# Altium integrated library analog-devices.IntLib: 264 symbols (part 4 of 4)
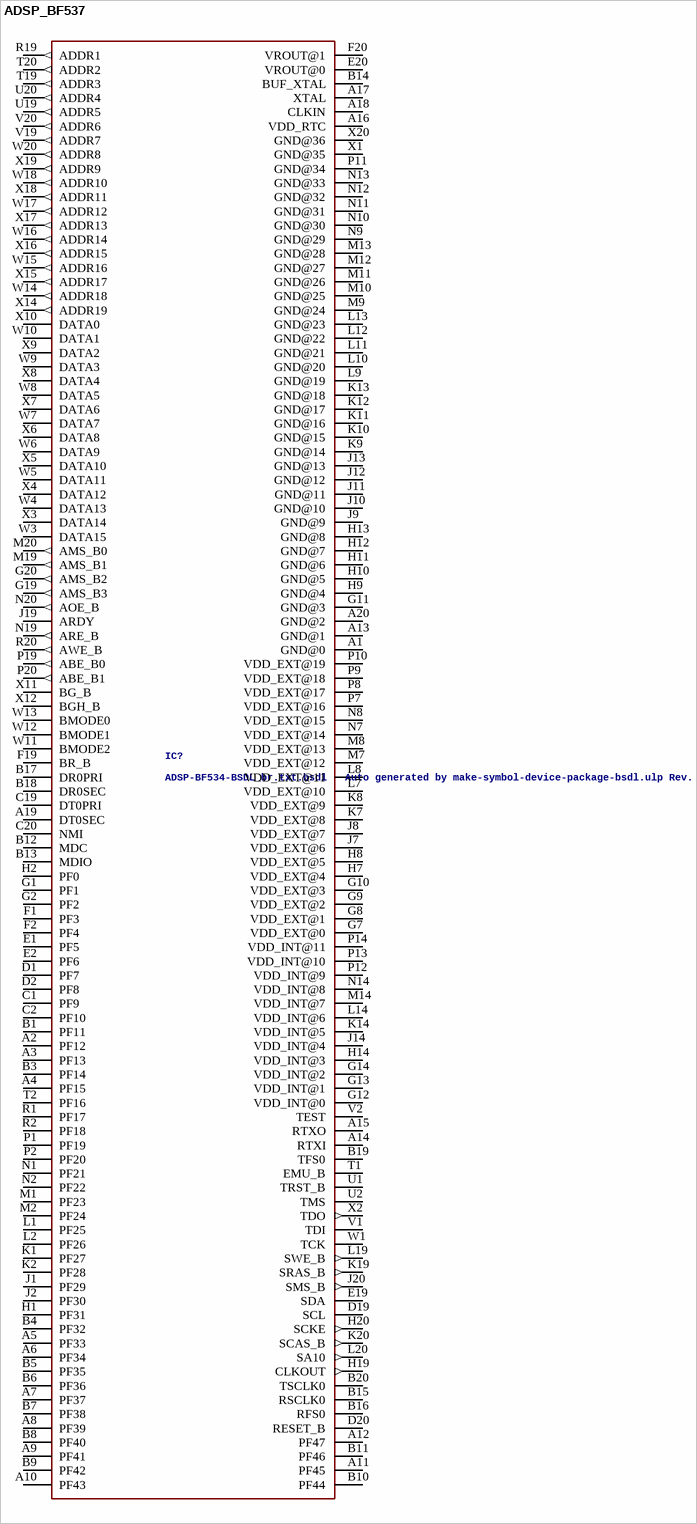
[diagram p42: symbol ADSP_BF537]

## ADSP_BF537
designator IC?, comment ADSP-BF534-BSDL_br.txt.bsdl   Auto generated by make-symbol-device-package-bsdl.ulp Rev. 8 Source: http://www.analog.com/UploadedFiles/Data_Sheets/90140778ADSP_BF536_7_prd.pdf Source2: BSDL_br.txt as Email: <adi-germany@analog.com>
MPN: ADSP-BF537BBCZ-5B; OC_FARNELL: 1776215; OC_NEWARK: 31M8122
footprint BGA_208
pins: A1 GND@0 (power), A2 PF12, A3 PF13, A4 PF15, A5 PF33, A6 PF34, A7 PF37, A8 PF39, A9 PF41, A10 PF43, A11 PF45, A12 PF47, A13 GND@1 (power), A14 RTXI (power), A15 RTXO (power), A16 VDD_RTC (power), A17 XTAL (power), A18 CLKIN (power), A19 DT0SEC, A20 GND@2 (power), B1 PF11, B3 PF14, B4 PF32, B5 PF35, B6 PF36, B7 PF38, B8 PF40, B9 PF42, B10 PF44, B11 PF46, B12 MDC, B13 MDIO, B14 BUF_XTAL (power), B15 RSCLK0, B16 RFS0, B17 DR0PRI, B18 DR0SEC, B19 TFS0, B20 TSCLK0, C1 PF9, C2 PF10, C19 DT0PRI, C20 NMI, D1 PF7, D2 PF8, D19 SCL, D20 RESET_B, E1 PF5, E2 PF6, E19 SDA, E20 VROUT@0 (power), F1 PF3, F2 PF4, F19 BR_B, F20 VROUT@1 (power), G1 PF1, G2 PF2, G7 VDD_EXT@0 (power), G8 VDD_EXT@1 (power), G9 VDD_EXT@2 (power), G10 VDD_EXT@3 (power), G11 GND@3 (power), G12 VDD_INT@0 (power), G13 VDD_INT@1 (power), G14 VDD_INT@2 (power), G19 AMS_B3 (out), G20 AMS_B2 (out), H1 PF31, H2 PF0, H7 VDD_EXT@4 (power), H8 VDD_EXT@5 (power), H9 GND@4 (power), H10 GND@5 (power), H11 GND@6 (power), H12 GND@7 (power), H13 GND@8 (power), H14 VDD_INT@3 (power), H19 CLKOUT (out), H20 SCKE (out), J1 PF29, J2 PF30, J7 VDD_EXT@6 (power), J8 VDD_EXT@7 (power), J9 GND@9 (power), J10 GND@10 (power), J11 GND@11 (power), J12 GND@12 (power), J13 GND@13 (power), J14 VDD_INT@4 (power), J19 ARDY, J20 SMS_B (out), K1 PF27, K2 PF28, K7 VDD_EXT@8 (power), K8 VDD_EXT@9 (power), K9 GND@14 (power), K10 GND@15 (power), K11 GND@16 (power), K12 GND@17 (power), K13 GND@18 (power), K14 VDD_INT@5 (power), K19 SRAS_B (out), K20 SCAS_B (out), L1 PF25, L2 PF26, L7 VDD_EXT@10 (power), L8 VDD_EXT@11 (power), L9 GND@19 (power), L10 GND@20 (power), L11 GND@21 (power), L12 GND@22 (power), L13 GND@23 (power), L14 VDD_INT@6 (power), L19 SWE_B (out), L20 SA10 (out), M1 PF23, M2 PF24, M7 VDD_EXT@12 (power), M8 VDD_EXT@13 (power), M9 GND@24 (power), M10 GND@25 (power), M11 GND@26 (power), M12 GND@27 (power), M13 GND@28 (power), M14 VDD_INT@7 (power), M19 AMS_B1 (out), M20 AMS_B0 (out), N1 PF21, N2 PF22, N7 VDD_EXT@14 (power), N8 VDD_EXT@15 (power), N9 GND@29 (power), N10 GND@30 (power), N11 GND@31 (power), N12 GND@32 (power), N13 GND@33 (power), N14 VDD_INT@8 (power), N19 ARE_B (out), N20 AOE_B (out), P1 PF19, P2 PF20, P7 VDD_EXT@16 (power), P8 VDD_EXT@17 (power), P9 VDD_EXT@18 (power), P10 VDD_EXT@19 (power), P11 GND@34 (power), P12 VDD_INT@9 (power), P13 VDD_INT@10 (power), P14 VDD_INT@11 (power), P19 ABE_B0 (out), P20 ABE_B1 (out), R1 PF17, R2 PF18, R19 ADDR1 (out), R20 AWE_B (out), T1 EMU_B (power), T2 PF16, T19 ADDR3 (out), T20 ADDR2 (out), U1 TRST_B, U2 TMS, U19 ADDR5 (out), U20 ADDR4 (out), V1 TDI, V2 TEST, V19 ADDR7 (out), V20 ADDR6 (out), W1 TCK, W3 DATA15, W4 DATA13, W5 DATA11, W6 DATA9, W7 DATA7, W8 DATA5, W9 DATA3, W10 DATA1, W11 BMODE2, W12 BMODE1, W13 BMODE0, W14 ADDR18 (out), W15 ADDR16 (out), W16 ADDR14 (out), W17 ADDR12 (out), W18 ADDR10 (out), W20 ADDR8 (out), X1 GND@35 (power), X2 TDO (out), X3 DATA14, X4 DATA12, X5 DATA10, X6 DATA8, X7 DATA6, X8 DATA4, X9 DATA2, X10 DATA0, X11 BG_B (hiz), X12 BGH_B (hiz), X14 ADDR19 (out), X15 ADDR17 (out), X16 ADDR15 (out), X17 ADDR13 (out), X18 ADDR11 (out), X19 ADDR9 (out), X20 GND@36 (power)

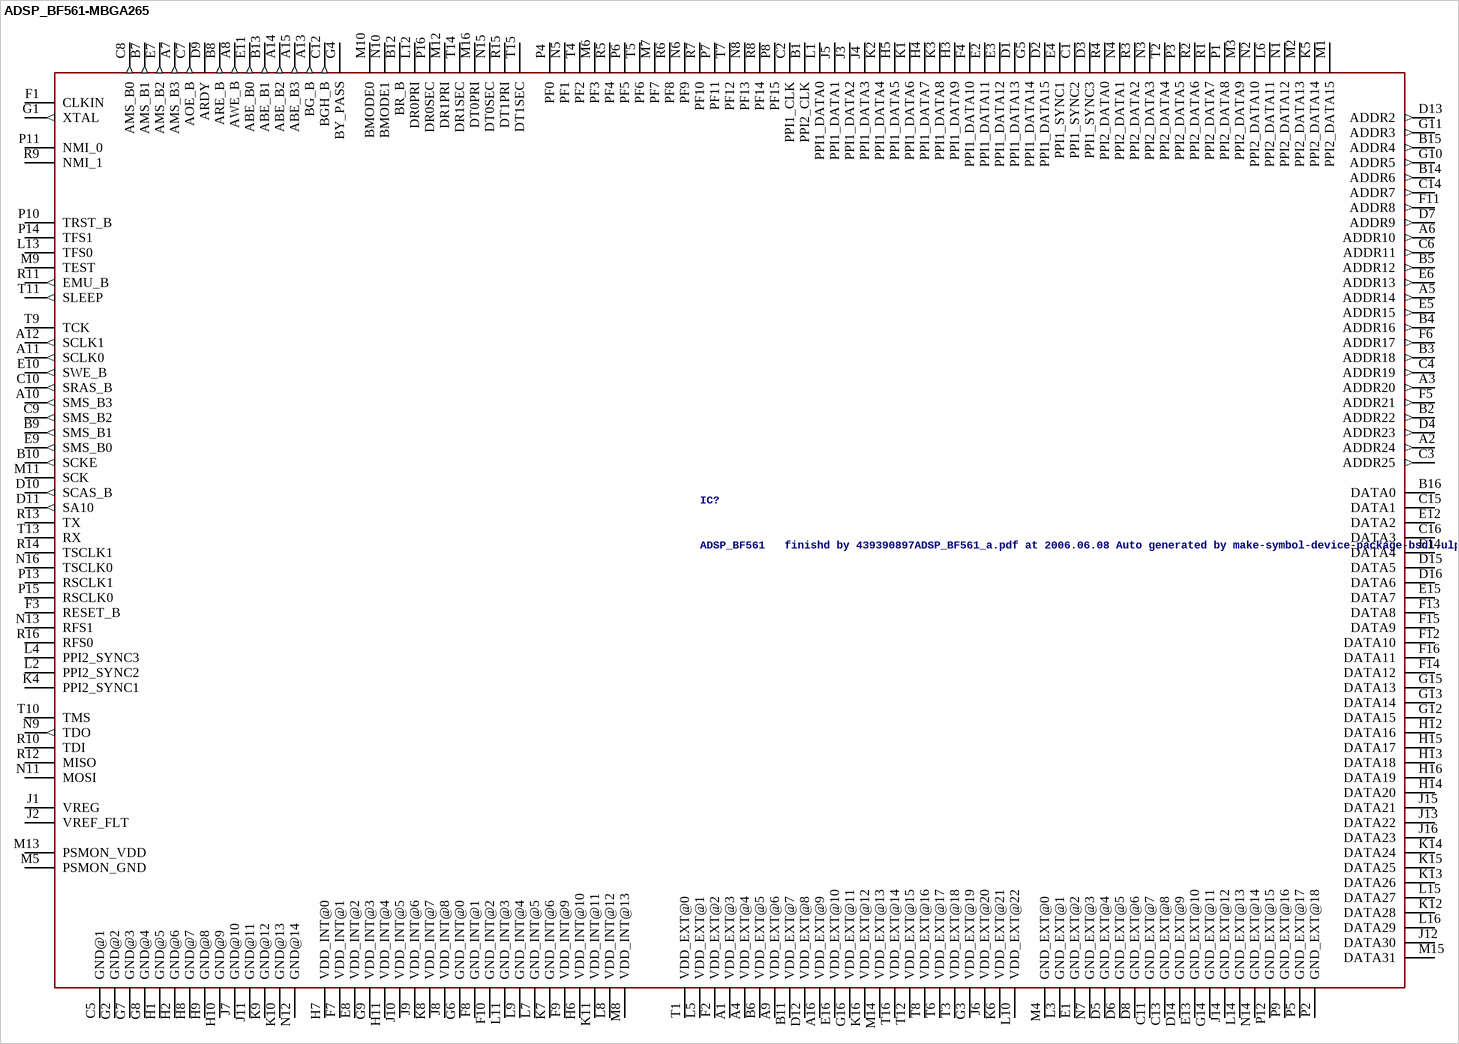
[diagram p33: symbol ADSP_BF561-MBGA265]

## ADSP_BF561-MBGA265
designator IC?, comment ADSP_BF561   finishd by 439390897ADSP_BF561_a.pdf at 2006.06.08 Auto generated by make-symbol-device-package-bsdl.ulp Rev. 13 Source: 37918753ADSP_BF561_256_MBGA_rev0_3.bsdl
OC_FARNELL: unknown; OC_NEWARK: unknown
footprint MPBGA256
pins: A1 VDD_EXT@3 (power), A2 ADDR24 (out), A3 ADDR20 (out), A4 VDD_EXT@4 (power), A5 ADDR14 (out), A6 ADDR10 (out), A7 AMS_B3 (out), A8 AWE_B (out), A9 VDD_EXT@6 (power), A10 SMS_B3 (out), A11 SCLK0 (out), A12 SCLK1 (out), A13 BG_B (out), A14 ABE_B2 (out), A15 ABE_B3 (out), A16 VDD_EXT@9 (power), B1 PPI2_CLK, B2 ADDR22 (out), B3 ADDR18 (out), B4 ADDR16 (out), B5 ADDR12 (out), B6 VDD_EXT@5 (power), B7 AMS_B1 (out), B8 ARE_B (out), B9 SMS_B1 (out), B10 SCKE (out), B11 VDD_EXT@7 (power), B12 BR_B, B13 ABE_B1 (out), B14 ADDR6 (out), B15 ADDR4 (out), B16 DATA0, C1 PPI1_SYNC2, C2 PPI1_CLK, C3 ADDR25 (out), C4 ADDR19 (out), C5 GND@1 (power), C6 ADDR11 (out), C7 AOE_B (out), C8 AMS_B0 (out), C9 SMS_B2 (out), C10 SRAS_B (out), C11 GND_EXT@7 (power), C12 BGH_B (out), C13 GND_EXT@8 (power), C14 ADDR7 (out), C15 DATA1, C16 DATA3, D1 PPI1_DATA13, D2 PPI1_DATA15, D3 PPI1_SYNC3, D4 ADDR23 (out), D5 GND_EXT@4 (power), D6 GND_EXT@5 (power), D7 ADDR9 (out), D8 GND_EXT@6 (power), D9 ARDY, D10 SCAS_B (out), D11 SA10 (out), D12 VDD_EXT@8 (power), D13 ADDR2 (out), D14 GND_EXT@9 (power), D15 DATA5, D16 DATA6, E1 GND_EXT@2 (power), E2 PPI1_DATA11, E3 PPI1_DATA12, E4 PPI1_SYNC1, E5 ADDR15 (out), E6 ADDR13 (out), E7 AMS_B2 (out), E8 VDD_INT@2 (power), E9 SMS_B0 (out), E10 SWE_B (out), E11 ABE_B0 (out), E12 DATA2, E13 GND_EXT@10 (power), E14 DATA4, E15 DATA7, E16 VDD_EXT@10 (power), F1 CLKIN, F2 VDD_EXT@2 (power), F3 RESET_B, F4 PPI1_DATA10, F5 ADDR21 (out), F6 ADDR17 (out), F7 VDD_INT@1 (power), F8 GND_INT@1 (power), F9 VDD_INT@9 (power), F10 GND_INT@2 (power), F11 ADDR8 (out), F12 DATA10, F13 DATA8, F14 DATA12, F15 DATA9, F16 DATA11, G1 XTAL (out), G2 GND@2 (power), G3 VDD_EXT@19 (power), G4 BY_PASS, G5 PPI1_DATA14, G6 GND_INT@0 (power), G7 GND@3 (power), G8 GND@4 (power), G9 VDD_INT@3 (power), G10 ADDR5 (out), G11 ADDR3 (out), G12 DATA15, G13 DATA14, G14 GND_EXT@11 (power), G15 DATA13, G16 VDD_EXT@11 (power), H1 GND@5 (power), H2 GND@6 (power), H3 PPI1_DATA9, H4 PPI1_DATA7, H5 PPI1_DATA5, H6 VDD_INT@10 (power), H7 VDD_INT@0 (power), H8 GND@7 (power), H9 GND@8 (power), H10 GND@9 (power), H11 VDD_INT@4 (power), H12 DATA16, H13 DATA18, H14 DATA20, H15 DATA17, H16 DATA19, J1 VREG, J2 VREF_FLT, J3 PPI1_DATA2, J4 PPI1_DATA3, J5 PPI1_DATA1, J6 VDD_EXT@20 (power), J7 GND@10 (power), J8 VDD_INT@8 (power), J9 VDD_INT@6 (power), J10 VDD_INT@5 (power), J11 GND@11 (power), J12 DATA30, J13 DATA22, J14 GND_EXT@12 (power), J15 DATA21, J16 DATA23, K1 PPI1_DATA6, K2 PPI1_DATA4, K3 PPI1_DATA8, K4 PPI2_SYNC1, K5 PPI2_DATA14, K6 VDD_EXT@21 (power), K7 GND_INT@6 (power), K8 VDD_INT@7 (power), K9 GND@12 (power), K10 GND@13 (power), K11 VDD_INT@11 (power), K12 DATA28, K13 DATA26, K14 DATA24, K15 DATA25, K16 VDD_EXT@12 (power), L1 PPI1_DATA0, L2 PPI2_SYNC2, L3 GND_EXT@1 (power), L4 PPI2_SYNC3, L5 VDD_EXT@1 (power), L6 PPI2_DATA11, L7 GND_INT@5 (power), L8 VDD_INT@12 (power), L9 GND_INT@4 (power), L10 VDD_EXT@22 (power), L11 GND_INT@3 (power), L12 DR0PRI, L13 TFS0, L14 GND_EXT@13 (power), L15 DATA27, L16 DATA29, M1 PPI2_DATA15, M2 PPI2_DATA13, M3 PPI2_DATA9, M4 GND_EXT@0 (power), M5 PSMON_GND (power), M6 PF3, M7 PF7, M8 VDD_INT@13 (power), M9 TEST, M10 BMODE0, M11 SCK, M12 DR1PRI, M13 PSMON_VDD (power), M14 VDD_EXT@13 (power), M15 DATA31, M16 DT0PRI, N1 PPI2_DATA12, N2 PPI2_DATA10, N3 PPI2_DATA3, N4 PPI2_DATA1, N5 PF1, N6 PF9, N7 GND_EXT@3 (power), N8 PF13, N9 TDO (out), N10 BMODE1, N11 MOSI, N12 GND@14 (power), N13 RFS1, N14 GND_EXT@14 (power), N15 DT0SEC, N16 TSCLK0, P1 PPI2_DATA8, P2 GND_EXT@18 (power), P3 PPI2_DATA5, P4 PF0, P5 GND_EXT@17 (power), P6 PF5, P7 PF11, P8 PF15, P9 GND_EXT@16 (power), P10 TRST_B, P11 NMI_0, P12 GND_EXT@15 (power), P13 RSCLK1, P14 TFS1, P15 RSCLK0, P16 DR0SEC, R1 PPI2_DATA7, R2 PPI2_DATA6, R3 PPI2_DATA2, R4 PPI2_DATA0, R5 PF4, R6 PF8, R7 PF10, R8 PF14, R9 NMI_1, R10 TDI, R11 EMU_B (out), R12 MISO, R13 TX, R14 TSCLK1, R15 DT1PRI, R16 RFS0, T1 VDD_EXT@0 (power), T2 PPI2_DATA4, T3 VDD_EXT@18 (power), T4 PF2, T5 PF6, T6 VDD_EXT@17 (power), T7 PF12, T8 VDD_EXT@16 (power), T9 TCK, T10 TMS, T11 SLEEP (out), T12 VDD_EXT@15 (power), T13 RX, T14 DR1SEC, T15 DT1SEC, T16 VDD_EXT@14 (power)

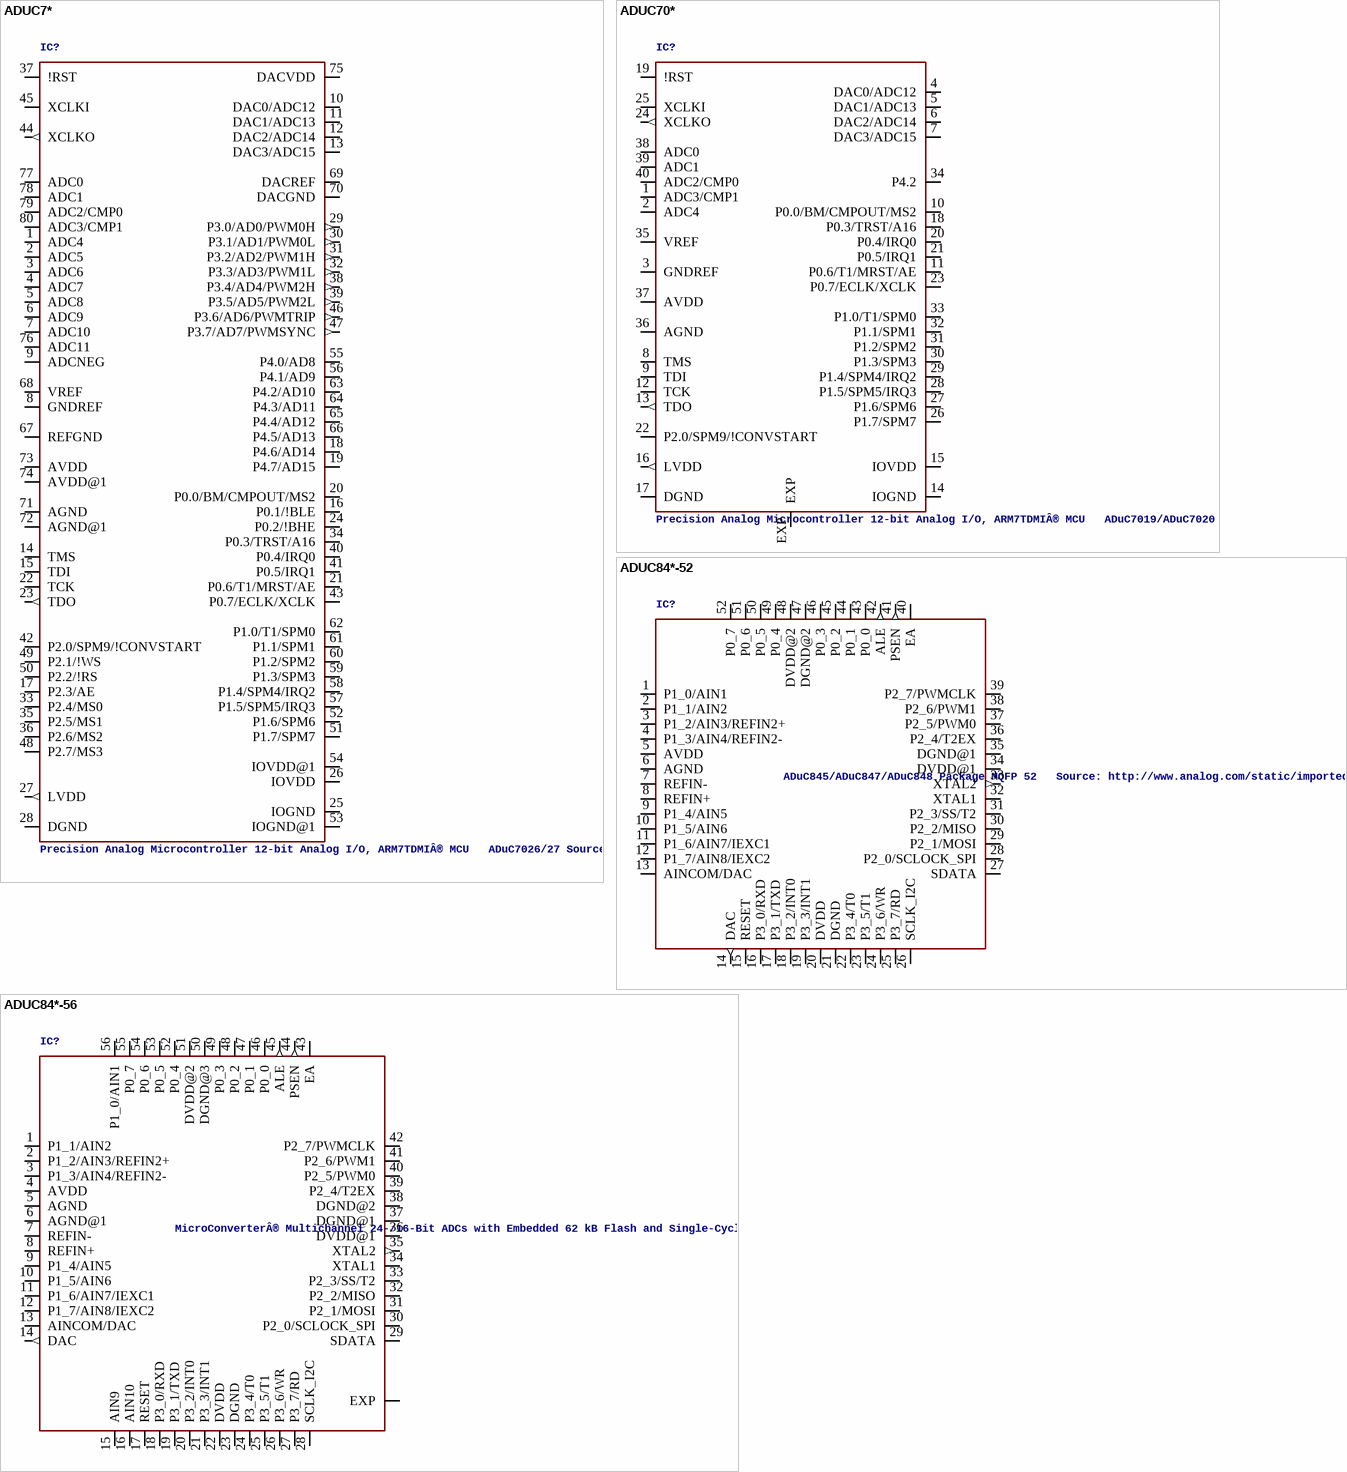
[diagram p34: symbols ADUC7* to ADUC84*-56]

## ADUC7*
designator IC?, comment Precision Analog Microcontroller 12-bit Analog I/O, ARM7TDMIÂ® MCU   ADuC7026/27 Source: Source: http://www.analog.com/UploadedFiles/Data_Sheets/288945048AD7C7019_20_1_2_4_5_6_7_0.pdf
MPN: ADUC7026BSTZ62; MPN: ADUC7026BSTZ62I-RL; MPN: ADUC7027BSTZ62; MPN: ADUC7027BSTZ62-RL; OC_FARNELL: unknown; OC_NEWARK: 12M8346; OC_NEWARK: unknown; OC_FARNELL: 1162647; OC_NEWARK: 12M8348; OC_FARNELL: 1162648; OC_NEWARK: 19M0746; OC_NEWARK: 12M8350
footprint LQFP_ST-80-1
pins: 1 ADC4, 2 ADC5, 3 ADC6, 4 ADC7, 5 ADC8, 6 ADC9, 7 ADC10, 8 GNDREF, 9 ADCNEG, 10 DAC0/ADC12, 11 DAC1/ADC13, 12 DAC2/ADC14, 13 DAC3/ADC15, 14 TMS, 15 TDI, 16 P0.1/!BLE, 17 P2.3/AE, 18 P4.6/AD14, 19 P4.7/AD15, 20 P0.0/BM/CMPOUT/MS2, 21 P0.6/T1/MRST/AE, 22 TCK, 23 TDO (out), 24 P0.2/!BHE, 25 IOGND (power), 26 IOVDD (power), 27 LVDD (out), 28 DGND (power), 29 P3.0/AD0/PWM0H (out), 30 P3.1/AD1/PWM0L (out), 31 P3.2/AD2/PWM1H (out), 32 P3.3/AD3/PWM1L (out), 33 P2.4/MS0, 34 P0.3/TRST/A16, 35 P2.5/MS1, 36 P2.6/MS2, 37 !RST, 38 P3.4/AD4/PWM2H (out), 39 P3.5/AD5/PWM2L (out), 40 P0.4/IRQ0, 41 P0.5/IRQ1, 42 P2.0/SPM9/!CONVSTART, 43 P0.7/ECLK/XCLK, 44 XCLKO (out), 45 XCLKI, 46 P3.6/AD6/PWMTRIP (out), 47 P3.7/AD7/PWMSYNC (out), 48 P2.7/MS3, 49 P2.1/!WS, 50 P2.2/!RS, 51 P1.7/SPM7, 52 P1.6/SPM6, 53 IOGND@1 (power), 54 IOVDD@1 (power), 55 P4.0/AD8, 56 P4.1/AD9, 57 P1.5/SPM5/IRQ3, 58 P1.4/SPM4/IRQ2, 59 P1.3/SPM3, 60 P1.2/SPM2, 61 P1.1/SPM1, 62 P1.0/T1/SPM0, 63 P4.2/AD10, 64 P4.3/AD11, 65 P4.4/AD12, 66 P4.5/AD13, 67 REFGND, 68 VREF, 69 DACREF, 70 DACGND (power), 71 AGND (power), 72 AGND@1 (power), 73 AVDD (power), 74 AVDD@1 (power), 75 DACVDD (power), 76 ADC11, 77 ADC0, 78 ADC1, 79 ADC2/CMP0, 80 ADC3/CMP1

## ADUC70*
designator IC?, comment Precision Analog Microcontroller 12-bit Analog I/O, ARM7TDMIÂ® MCU   ADuC7019/ADuC7020 Source: http://www.analog.com/UploadedFiles/Data_Sheets/288945048AD7C7019_20_1_2_4_5_6_7_0.pdf
MPN: ADUC7019BCPZ62I; MPN: ADUC7019BCPZ62IRL7; MPN: ADUC7020BCPZ62; MPN: ADUC7020BCPZ62-RL7; MPN: ADUC7020BCPZ62I; MPN: ADUC7020BCPZ62I-RL; MPN: ADUC7020BCPZ62IRL7; OC_FARNELL: unknown; OC_NEWARK: 19M0734; OC_NEWARK: 12M8312; OC_FARNELL: 1162634; OC_NEWARK: 19M0735; OC_NEWARK: 12M8315; OC_NEWARK: unknown; OC_NEWARK: 61M4009; OC_NEWARK: 12M8316; OC_NEWARK: 12M8317
footprint LFCSP40
pins: 1 ADC3/CMP1, 2 ADC4, 3 GNDREF, 4 DAC0/ADC12, 5 DAC1/ADC13, 6 DAC2/ADC14, 7 DAC3/ADC15, 8 TMS, 9 TDI, 10 P0.0/BM/CMPOUT/MS2, 11 P0.6/T1/MRST/AE, 12 TCK, 13 TDO (out), 14 IOGND (power), 15 IOVDD (power), 16 LVDD (out), 17 DGND (power), 18 P0.3/TRST/A16, 19 !RST, 20 P0.4/IRQ0, 21 P0.5/IRQ1, 22 P2.0/SPM9/!CONVSTART, 23 P0.7/ECLK/XCLK, 24 XCLKO (out), 25 XCLKI, 26 P1.7/SPM7, 27 P1.6/SPM6, 28 P1.5/SPM5/IRQ3, 29 P1.4/SPM4/IRQ2, 30 P1.3/SPM3, 31 P1.2/SPM2, 32 P1.1/SPM1, 33 P1.0/T1/SPM0, 34 P4.2, 35 VREF, 36 AGND (power), 37 AVDD (power), 38 ADC0, 39 ADC1, 40 ADC2/CMP0, EXP

## ADUC84*-52
designator IC?, comment ADuC845/ADuC847/ADuC848 Package MQFP 52   Source: http://www.analog.com/static/imported-files/data_sheets/ADUC845_847_848.pdf
MPN: ADUC845BSZ62-5; MPN: ADUC847BSZ62-3; MPN: ADUC848BSZ62-5; OC_FARNELL: 1438809; OC_NEWARK: 15P0574; OC_FARNELL: 1438810; OC_NEWARK: 15P0575; OC_FARNELL: 1438811; OC_NEWARK: 15P0578
footprint MQFP52
pins: 1 P1_0/AIN1, 2 P1_1/AIN2, 3 P1_2/AIN3/REFIN2+, 4 P1_3/AIN4/REFIN2-, 5 AVDD (power), 6 AGND (power), 7 REFIN-, 8 REFIN+, 9 P1_4/AIN5, 10 P1_5/AIN6, 11 P1_6/AIN7/IEXC1, 12 P1_7/AIN8/IEXC2, 13 AINCOM/DAC, 14 DAC (out), 15 RESET, 16 P3_0/RXD, 17 P3_1/TXD, 18 P3_2/INT0, 19 P3_3/INT1, 20 DVDD (power), 21 DGND (power), 22 P3_4/T0, 23 P3_5/T1, 24 P3_6/WR, 25 P3_7/RD, 26 SCLK_I2C, 27 SDATA, 28 P2_0/SCLOCK_SPI, 29 P2_1/MOSI, 30 P2_2/MISO, 31 P2_3/SS/T2, 32 XTAL1, 33 XTAL2 (out), 34 DVDD@1 (power), 35 DGND@1 (power), 36 P2_4/T2EX, 37 P2_5/PWM0, 38 P2_6/PWM1, 39 P2_7/PWMCLK, 40 EA, 41 PSEN (out), 42 ALE (out), 43 P0_0, 44 P0_1, 45 P0_2, 46 P0_3, 47 DGND@2 (power), 48 DVDD@2 (power), 49 P0_4, 50 P0_5, 51 P0_6, 52 P0_7

## ADUC84*-56
designator IC?, comment MicroConverterÂ® Multichannel 24-/16-Bit ADCs with Embedded 62 kB Flash and Single-Cycle MCU   Source: http://www.analog.com/static/imported-files/data_sheets/ADUC845_847_848.pdf
OC_FARNELL: unknown; OC_NEWARK: unknown
footprint LFCSP56
pins: 1 P1_1/AIN2, 2 P1_2/AIN3/REFIN2+, 3 P1_3/AIN4/REFIN2-, 4 AVDD (power), 5 AGND (power), 6 AGND@1 (power), 7 REFIN-, 8 REFIN+, 9 P1_4/AIN5, 10 P1_5/AIN6, 11 P1_6/AIN7/IEXC1, 12 P1_7/AIN8/IEXC2, 13 AINCOM/DAC, 14 DAC (out), 15 AIN9, 16 AIN10, 17 RESET, 18 P3_0/RXD, 19 P3_1/TXD, 20 P3_2/INT0, 21 P3_3/INT1, 22 DVDD (power), 23 DGND (power), 24 P3_4/T0, 25 P3_5/T1, 26 P3_6/WR, 27 P3_7/RD, 28 SCLK_I2C, 29 SDATA, 30 P2_0/SCLOCK_SPI, 31 P2_1/MOSI, 32 P2_2/MISO, 33 P2_3/SS/T2, 34 XTAL1, 35 XTAL2 (out), 36 DVDD@1 (power), 37 DGND@1 (power), 38 DGND@2 (power), 39 P2_4/T2EX, 40 P2_5/PWM0, 41 P2_6/PWM1, 42 P2_7/PWMCLK, 43 EA, 44 PSEN (out), 45 ALE (out), 46 P0_0, 47 P0_1, 48 P0_2, 49 P0_3, 50 DGND@3 (power), 51 DVDD@2 (power), 52 P0_4, 53 P0_5, 54 P0_6, 55 P0_7, 56 P1_0/AIN1, EXP

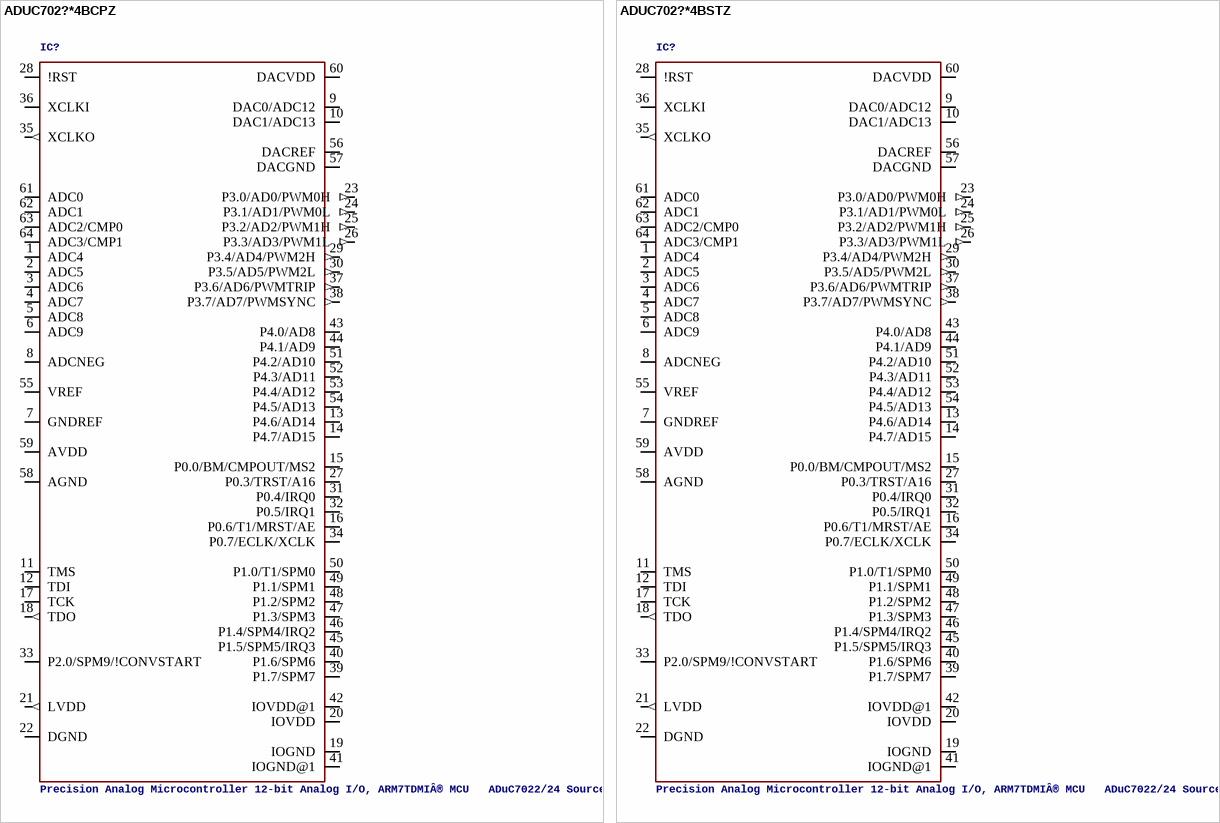
[diagram p35: symbols ADUC702?*4BCPZ to ADUC702?*4BSTZ]

## ADUC702?*4BCPZ
designator IC?, comment Precision Analog Microcontroller 12-bit Analog I/O, ARM7TDMIÂ® MCU   ADuC7022/24 Source: http://www.analog.com/UploadedFiles/Data_Sheets/288945048AD7C7019_20_1_2_4_5_6_7_0.pdf
OC_FARNELL: unknown; OC_NEWARK: unknown
footprint LFCSP64
pins: 1 ADC4, 2 ADC5, 3 ADC6, 4 ADC7, 5 ADC8, 6 ADC9, 7 GNDREF, 8 ADCNEG, 9 DAC0/ADC12, 10 DAC1/ADC13, 11 TMS, 12 TDI, 13 P4.6/AD14, 14 P4.7/AD15, 15 P0.0/BM/CMPOUT/MS2, 16 P0.6/T1/MRST/AE, 17 TCK, 18 TDO (out), 19 IOGND (power), 20 IOVDD (power), 21 LVDD (out), 22 DGND (power), 23 P3.0/AD0/PWM0H (out), 24 P3.1/AD1/PWM0L (out), 25 P3.2/AD2/PWM1H (out), 26 P3.3/AD3/PWM1L (out), 27 P0.3/TRST/A16, 28 !RST, 29 P3.4/AD4/PWM2H (out), 30 P3.5/AD5/PWM2L (out), 31 P0.4/IRQ0, 32 P0.5/IRQ1, 33 P2.0/SPM9/!CONVSTART, 34 P0.7/ECLK/XCLK, 35 XCLKO (out), 36 XCLKI, 37 P3.6/AD6/PWMTRIP (out), 38 P3.7/AD7/PWMSYNC (out), 39 P1.7/SPM7, 40 P1.6/SPM6, 41 IOGND@1 (power), 42 IOVDD@1 (power), 43 P4.0/AD8, 44 P4.1/AD9, 45 P1.5/SPM5/IRQ3, 46 P1.4/SPM4/IRQ2, 47 P1.3/SPM3, 48 P1.2/SPM2, 49 P1.1/SPM1, 50 P1.0/T1/SPM0, 51 P4.2/AD10, 52 P4.3/AD11, 53 P4.4/AD12, 54 P4.5/AD13, 55 VREF, 56 DACREF, 57 DACGND (power), 58 AGND (power), 59 AVDD (power), 60 DACVDD (power), 61 ADC0, 62 ADC1, 63 ADC2/CMP0, 64 ADC3/CMP1

## ADUC702?*4BSTZ
designator IC?, comment Precision Analog Microcontroller 12-bit Analog I/O, ARM7TDMIÂ® MCU   ADuC7022/24 Source: http://www.analog.com/UploadedFiles/Data_Sheets/288945048AD7C7019_20_1_2_4_5_6_7_0.pdf
MPN: ADUC7024BSTZ62-RL; OC_FARNELL: unknown; OC_NEWARK: 12M8337; OC_NEWARK: unknown
footprint LQFP-ST-64-2
pins: 1 ADC4, 2 ADC5, 3 ADC6, 4 ADC7, 5 ADC8, 6 ADC9, 7 GNDREF, 8 ADCNEG, 9 DAC0/ADC12, 10 DAC1/ADC13, 11 TMS, 12 TDI, 13 P4.6/AD14, 14 P4.7/AD15, 15 P0.0/BM/CMPOUT/MS2, 16 P0.6/T1/MRST/AE, 17 TCK, 18 TDO (out), 19 IOGND (power), 20 IOVDD (power), 21 LVDD (out), 22 DGND (power), 23 P3.0/AD0/PWM0H (out), 24 P3.1/AD1/PWM0L (out), 25 P3.2/AD2/PWM1H (out), 26 P3.3/AD3/PWM1L (out), 27 P0.3/TRST/A16, 28 !RST, 29 P3.4/AD4/PWM2H (out), 30 P3.5/AD5/PWM2L (out), 31 P0.4/IRQ0, 32 P0.5/IRQ1, 33 P2.0/SPM9/!CONVSTART, 34 P0.7/ECLK/XCLK, 35 XCLKO (out), 36 XCLKI, 37 P3.6/AD6/PWMTRIP (out), 38 P3.7/AD7/PWMSYNC (out), 39 P1.7/SPM7, 40 P1.6/SPM6, 41 IOGND@1 (power), 42 IOVDD@1 (power), 43 P4.0/AD8, 44 P4.1/AD9, 45 P1.5/SPM5/IRQ3, 46 P1.4/SPM4/IRQ2, 47 P1.3/SPM3, 48 P1.2/SPM2, 49 P1.1/SPM1, 50 P1.0/T1/SPM0, 51 P4.2/AD10, 52 P4.3/AD11, 53 P4.4/AD12, 54 P4.5/AD13, 55 VREF, 56 DACREF, 57 DACGND (power), 58 AGND (power), 59 AVDD (power), 60 DACVDD (power), 61 ADC0, 62 ADC1, 63 ADC2/CMP0, 64 ADC3/CMP1

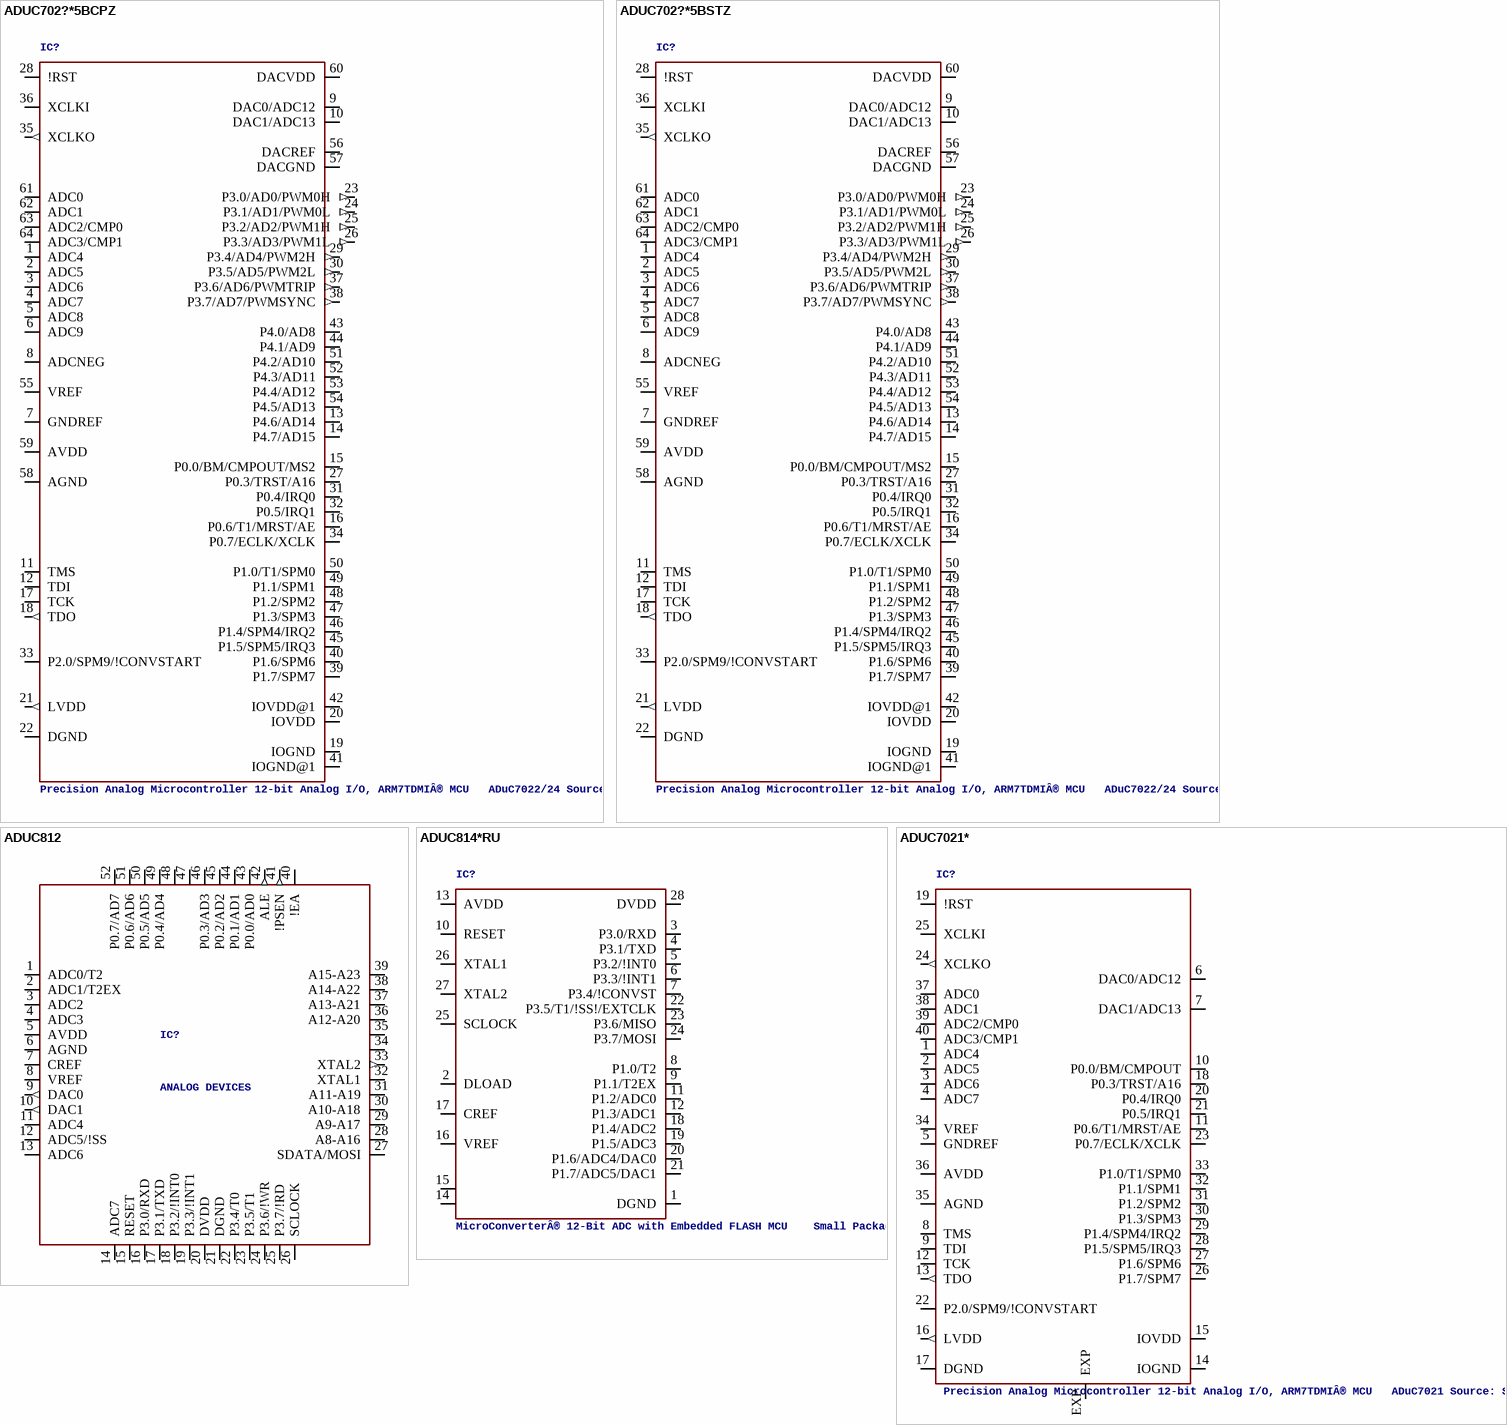
[diagram p36: symbols ADUC702?*5BCPZ to ADUC7021*]

## ADUC702?*5BCPZ
designator IC?, comment Precision Analog Microcontroller 12-bit Analog I/O, ARM7TDMIÂ® MCU   ADuC7022/24 Source: http://www.analog.com/UploadedFiles/Data_Sheets/288945048AD7C7019_20_1_2_4_5_6_7_0.pdf
OC_FARNELL: unknown; OC_NEWARK: unknown
footprint LFCSP64
pins: 1 ADC4, 2 ADC5, 3 ADC6, 4 ADC7, 5 ADC8, 6 ADC9, 7 GNDREF, 8 ADCNEG, 9 DAC0/ADC12, 10 DAC1/ADC13, 11 TMS, 12 TDI, 13 P4.6/AD14, 14 P4.7/AD15, 15 P0.0/BM/CMPOUT/MS2, 16 P0.6/T1/MRST/AE, 17 TCK, 18 TDO (out), 19 IOGND (power), 20 IOVDD (power), 21 LVDD (out), 22 DGND (power), 23 P3.0/AD0/PWM0H (out), 24 P3.1/AD1/PWM0L (out), 25 P3.2/AD2/PWM1H (out), 26 P3.3/AD3/PWM1L (out), 27 P0.3/TRST/A16, 28 !RST, 29 P3.4/AD4/PWM2H (out), 30 P3.5/AD5/PWM2L (out), 31 P0.4/IRQ0, 32 P0.5/IRQ1, 33 P2.0/SPM9/!CONVSTART, 34 P0.7/ECLK/XCLK, 35 XCLKO (out), 36 XCLKI, 37 P3.6/AD6/PWMTRIP (out), 38 P3.7/AD7/PWMSYNC (out), 39 P1.7/SPM7, 40 P1.6/SPM6, 41 IOGND@1 (power), 42 IOVDD@1 (power), 43 P4.0/AD8, 44 P4.1/AD9, 45 P1.5/SPM5/IRQ3, 46 P1.4/SPM4/IRQ2, 47 P1.3/SPM3, 48 P1.2/SPM2, 49 P1.1/SPM1, 50 P1.0/T1/SPM0, 51 P4.2/AD10, 52 P4.3/AD11, 53 P4.4/AD12, 54 P4.5/AD13, 55 VREF, 56 DACREF, 57 DACGND (power), 58 AGND (power), 59 AVDD (power), 60 DACVDD (power), 61 ADC0, 62 ADC1, 63 ADC2/CMP0, 64 ADC3/CMP1

## ADUC702?*5BSTZ
designator IC?, comment Precision Analog Microcontroller 12-bit Analog I/O, ARM7TDMIÂ® MCU   ADuC7022/24 Source: http://www.analog.com/UploadedFiles/Data_Sheets/288945048AD7C7019_20_1_2_4_5_6_7_0.pdf
MPN: ADUC7025BSTZ62-RL; OC_FARNELL: unknown; OC_NEWARK: 12M8345; OC_NEWARK: unknown
footprint LQFP-ST-64-2
pins: 1 ADC4, 2 ADC5, 3 ADC6, 4 ADC7, 5 ADC8, 6 ADC9, 7 GNDREF, 8 ADCNEG, 9 DAC0/ADC12, 10 DAC1/ADC13, 11 TMS, 12 TDI, 13 P4.6/AD14, 14 P4.7/AD15, 15 P0.0/BM/CMPOUT/MS2, 16 P0.6/T1/MRST/AE, 17 TCK, 18 TDO (out), 19 IOGND (power), 20 IOVDD (power), 21 LVDD (out), 22 DGND (power), 23 P3.0/AD0/PWM0H (out), 24 P3.1/AD1/PWM0L (out), 25 P3.2/AD2/PWM1H (out), 26 P3.3/AD3/PWM1L (out), 27 P0.3/TRST/A16, 28 !RST, 29 P3.4/AD4/PWM2H (out), 30 P3.5/AD5/PWM2L (out), 31 P0.4/IRQ0, 32 P0.5/IRQ1, 33 P2.0/SPM9/!CONVSTART, 34 P0.7/ECLK/XCLK, 35 XCLKO (out), 36 XCLKI, 37 P3.6/AD6/PWMTRIP (out), 38 P3.7/AD7/PWMSYNC (out), 39 P1.7/SPM7, 40 P1.6/SPM6, 41 IOGND@1 (power), 42 IOVDD@1 (power), 43 P4.0/AD8, 44 P4.1/AD9, 45 P1.5/SPM5/IRQ3, 46 P1.4/SPM4/IRQ2, 47 P1.3/SPM3, 48 P1.2/SPM2, 49 P1.1/SPM1, 50 P1.0/T1/SPM0, 51 P4.2/AD10, 52 P4.3/AD11, 53 P4.4/AD12, 54 P4.5/AD13, 55 VREF, 56 DACREF, 57 DACGND (power), 58 AGND (power), 59 AVDD (power), 60 DACVDD (power), 61 ADC0, 62 ADC1, 63 ADC2/CMP0, 64 ADC3/CMP1

## ADUC812
designator IC?, comment ANALOG DEVICES
MPN: ADUC812BSZ; MF: ALTERA CORPORATION; OC_FARNELL: 9605282; OC_NEWARK: 59K3130
footprint PQFP52
pins: 1 ADC0/T2, 2 ADC1/T2EX, 3 ADC2, 4 ADC3, 5 AVDD (power), 6 AGND (power), 7 CREF, 8 VREF, 9 DAC0 (out), 10 DAC1 (out), 11 ADC4, 12 ADC5/!SS, 13 ADC6, 14 ADC7, 15 RESET, 16 P3.0/RXD, 17 P3.1/TXD, 18 P3.2/!INT0, 19 P3.3/!INT1, 20 DVDD (power), 21 DGND (power), 22 P3.4/T0, 23 P3.5/T1, 24 P3.6/!WR, 25 P3.7/!RD, 26 SCLOCK, 27 SDATA/MOSI, 28 A8-A16, 29 A9-A17, 30 A10-A18, 31 A11-A19, 32 XTAL1, 33 XTAL2 (out), 34 DVDD@1 (power), 35 D@GND1 (power), 36 A12-A20, 37 A13-A21, 38 A14-A22, 39 A15-A23, 40 !EA, 41 !PSEN (out), 42 ALE (out), 43 P0.0/AD0, 44 P0.1/AD1, 45 P0.2/AD2, 46 P0.3/AD3, 47 DGND@2 (power), 48 DVDD@2 (power), 49 P0.4/AD4, 50 P0.5/AD5, 51 P0.6/AD6, 52 P0.7/AD7

## ADUC814*RU
designator IC?, comment MicroConverterÂ® 12-Bit ADC with Embedded FLASH MCU    Small Package
MPN: ADUC814ARUZ; MPN: ADUC814BRU; OC_FARNELL: 9426361; OC_NEWARK: 31M3924; OC_FARNELL: 1424536; OC_NEWARK: 92C2265
footprint TSSOP28
pins: 1 DGND (power), 2 DLOAD, 3 P3.0/RXD, 4 P3.1/TXD, 5 P3.2/!INT0, 6 P3.3/!INT1, 7 P3.4/!CONVST, 8 P1.0/T2, 9 P1.1/T2EX, 10 RESET, 11 P1.2/ADC0, 12 P1.3/ADC1, 13 AVDD (power), 14 AGND@1 (power), 15 AGND@2 (power), 16 VREF, 17 CREF, 18 P1.4/ADC2, 19 P1.5/ADC3, 20 P1.6/ADC4/DAC0, 21 P1.7/ADC5/DAC1, 22 P3.5/T1/!SS!/EXTCLK, 23 P3.6/MISO, 24 P3.7/MOSI, 25 SCLOCK, 26 XTAL1, 27 XTAL2, 28 DVDD (power)

## ADUC7021*
designator IC?, comment Precision Analog Microcontroller 12-bit Analog I/O, ARM7TDMIÂ® MCU   ADuC7021 Source: Source: http://www.analog.com/UploadedFiles/Data_Sheets/288945048AD7C7019_20_1_2_4_5_6_7_0.pdf
MPN: ADUC7021BCPZ32; MPN: ADUC7021BCPZ62; MPN: ADUC7021BCPZ62I; OC_FARNELL: 1274142; OC_NEWARK: 31M3910; OC_FARNELL: unknown; OC_NEWARK: unknown; OC_FARNELL: 1162635; OC_NEWARK: 31M3911; OC_FARNELL: 1162636; OC_NEWARK: 19M0738
footprint LFCSP40
pins: 1 ADC4, 2 ADC5, 3 ADC6, 4 ADC7, 5 GNDREF, 6 DAC0/ADC12, 7 DAC1/ADC13, 8 TMS, 9 TDI, 10 P0.0/BM/CMPOUT, 11 P0.6/T1/MRST/AE, 12 TCK, 13 TDO (out), 14 IOGND (power), 15 IOVDD (power), 16 LVDD (out), 17 DGND (power), 18 P0.3/TRST/A16, 19 !RST, 20 P0.4/IRQ0, 21 P0.5/IRQ1, 22 P2.0/SPM9/!CONVSTART, 23 P0.7/ECLK/XCLK, 24 XCLKO (out), 25 XCLKI, 26 P1.7/SPM7, 27 P1.6/SPM6, 28 P1.5/SPM5/IRQ3, 29 P1.4/SPM4/IRQ2, 30 P1.3/SPM3, 31 P1.2/SPM2, 32 P1.1/SPM1, 33 P1.0/T1/SPM0, 34 VREF, 35 AGND (power), 36 AVDD (power), 37 ADC0, 38 ADC1, 39 ADC2/CMP0, 40 ADC3/CMP1, EXP

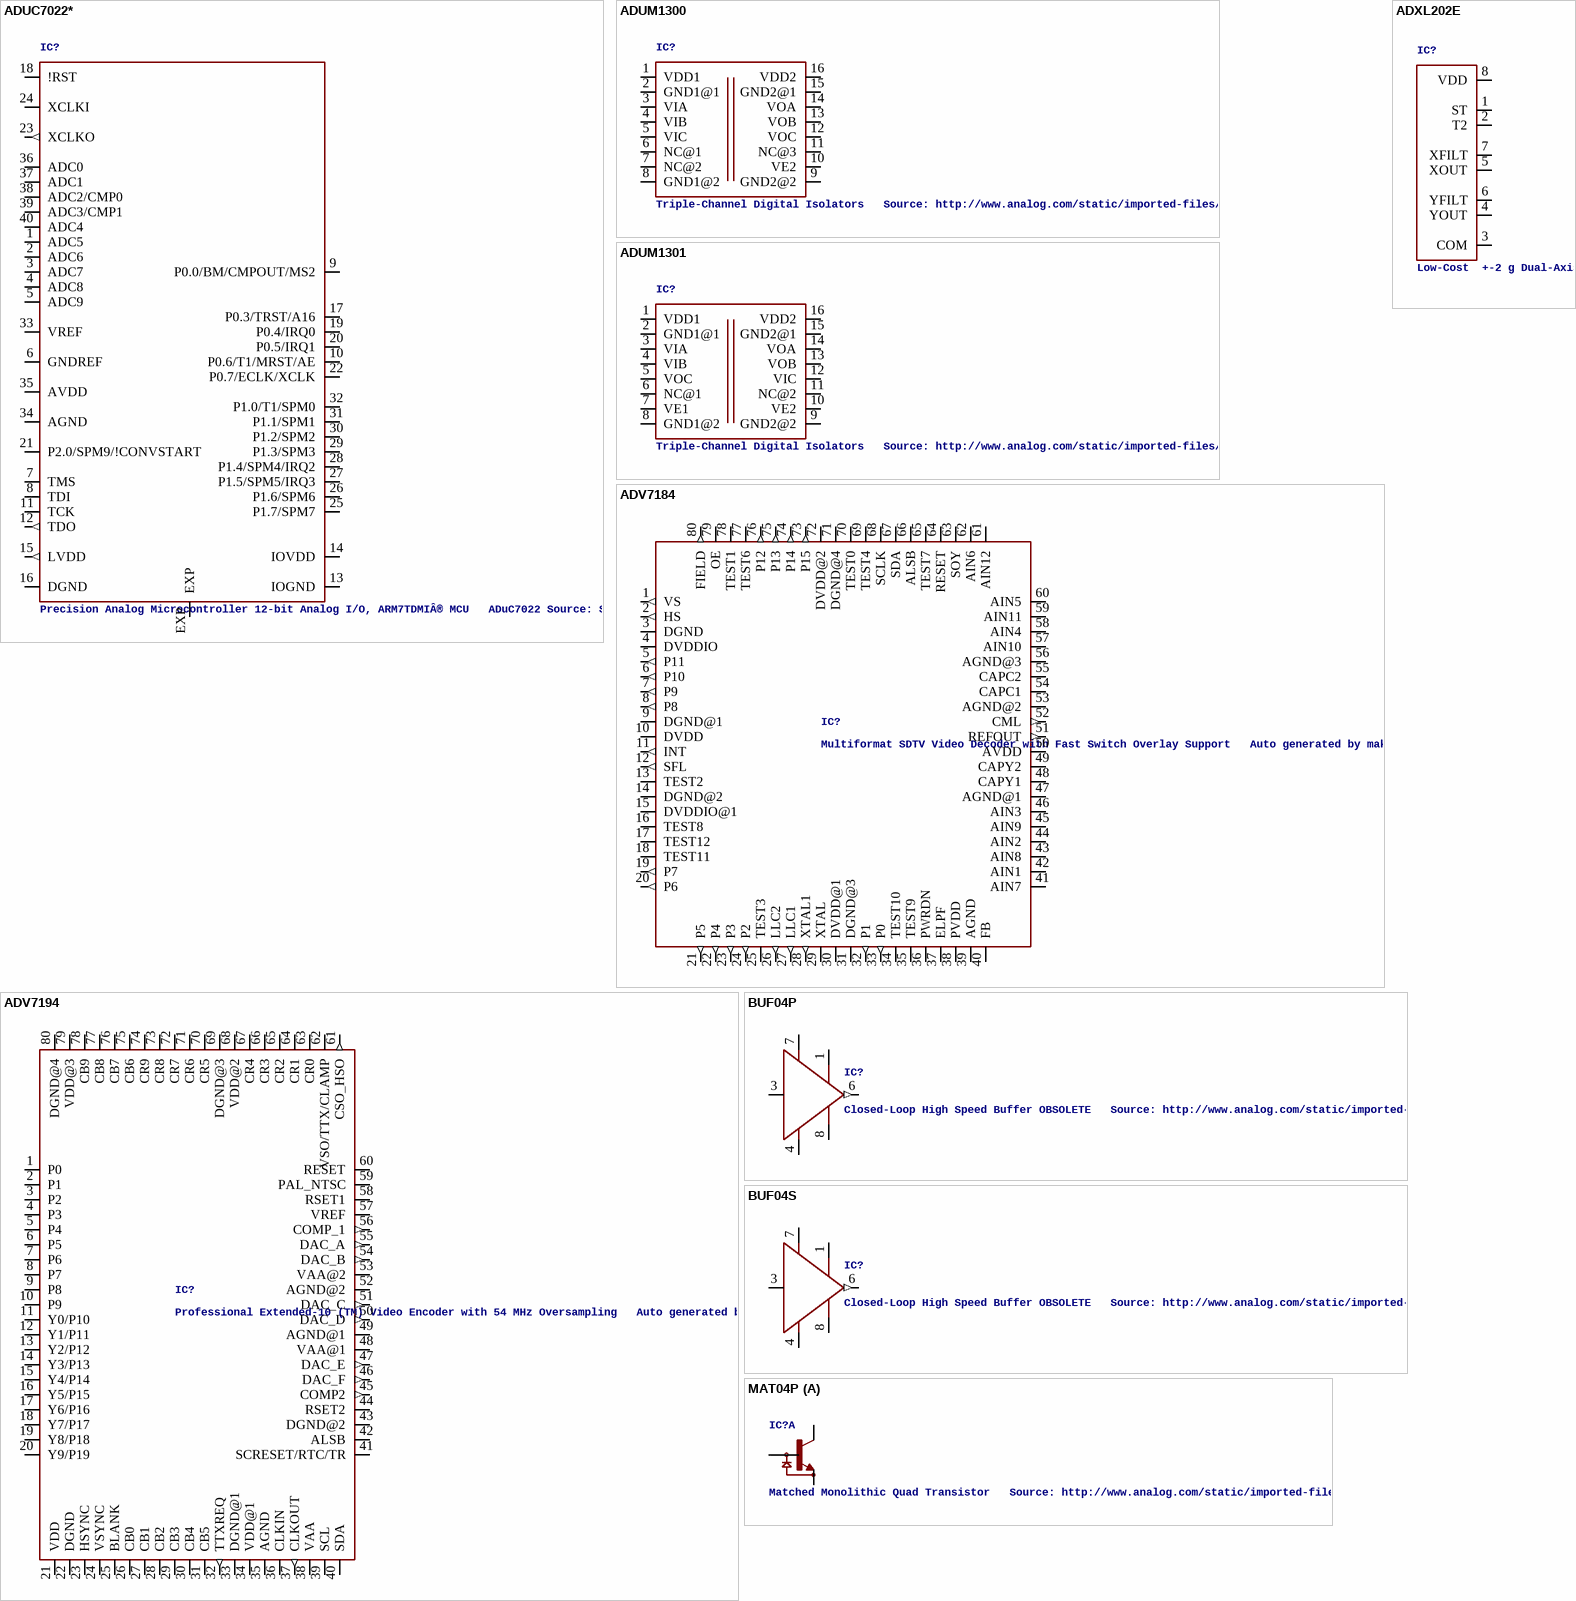
[diagram p37: symbols ADUC7022* to MAT04P]

## ADUC7022*
designator IC?, comment Precision Analog Microcontroller 12-bit Analog I/O, ARM7TDMIÂ® MCU   ADuC7022 Source: Source: http://www.analog.com/UploadedFiles/Data_Sheets/288945048AD7C7019_20_1_2_4_5_6_7_0.pdf
MPN: ADUC7022BCPZ32; MPN: ADUC7022BCPZ62; OC_FARNELL: 1162638; OC_NEWARK: 19M0739; OC_FARNELL: unknown; OC_NEWARK: unknown; OC_FARNELL: 1162637; OC_NEWARK: 19M0740
footprint LFCSP40
pins: 1 ADC5, 2 ADC6, 3 ADC7, 4 ADC8, 5 ADC9, 6 GNDREF, 7 TMS, 8 TDI, 9 P0.0/BM/CMPOUT/MS2, 10 P0.6/T1/MRST/AE, 11 TCK, 12 TDO (out), 13 IOGND (power), 14 IOVDD (power), 15 LVDD (out), 16 DGND (power), 17 P0.3/TRST/A16, 18 !RST, 19 P0.4/IRQ0, 20 P0.5/IRQ1, 21 P2.0/SPM9/!CONVSTART, 22 P0.7/ECLK/XCLK, 23 XCLKO (out), 24 XCLKI, 25 P1.7/SPM7, 26 P1.6/SPM6, 27 P1.5/SPM5/IRQ3, 28 P1.4/SPM4/IRQ2, 29 P1.3/SPM3, 30 P1.2/SPM2, 31 P1.1/SPM1, 32 P1.0/T1/SPM0, 33 VREF, 34 AGND (power), 35 AVDD (power), 36 ADC0, 37 ADC1, 38 ADC2/CMP0, 39 ADC3/CMP1, 40 ADC4, EXP

## ADUM1300
designator IC?, comment Triple-Channel Digital Isolators   Source: http://www.analog.com/static/imported-files/data_sheets/ADuM1300_1301.pdf
MPN: ADUM1300ARWZ; OC_FARNELL: 1465621; OC_NEWARK: 19M8751
footprint SO-16W
pins: 1 VDD1, 2 GND1@1, 3 VIA, 4 VIB, 5 VIC, 6 NC@1, 7 NC@2, 8 GND1@2, 9 GND2@2, 10 VE2, 11 NC@3, 12 VOC (hiz), 13 VOB (hiz), 14 VOA (hiz), 15 GND2@1, 16 VDD2

## ADUM1301
designator IC?, comment Triple-Channel Digital Isolators   Source: http://www.analog.com/static/imported-files/data_sheets/ADuM1300_1301.pdf
MPN: ADUM1301BRWZ; OC_FARNELL: 1465623; OC_NEWARK: 19M0757
footprint SO-16W
pins: 1 VDD1, 2 GND1@1, 3 VIA, 4 VIB, 5 VOC (hiz), 6 NC@1, 7 VE1, 8 GND1@2, 9 GND2@2, 10 VE2, 11 NC@2, 12 VIC, 13 VOB (hiz), 14 VOA (hiz), 15 GND2@1, 16 VDD2

## ADV7184
designator IC?, comment Multiformat SDTV Video Decoder with Fast Switch Overlay Support   Auto generated by make-symbol-device-package-bsdl.ulp Rev. 33 Source: http://www.analog.com/static/imported-files/data_sheets/ADV7184.pdf
MPN: ADV7184BSTZ; OC_FARNELL: 1117101; OC_NEWARK: 31M3981
footprint LQFP80
pins: 1 VS (out), 2 HS (out), 3 DGND (power), 4 DVDDIO (power), 5 P11 (out), 6 P10 (out), 7 P9 (out), 8 P8 (out), 9 DGND@1 (power), 10 DVDD (power), 11 INT (out), 12 SFL (out), 13 TEST2, 14 DGND@2 (power), 15 DVDDIO@1 (power), 16 TEST8, 17 TEST12, 18 TEST11, 19 P7 (out), 20 P6 (out), 21 P5 (out), 22 P4 (out), 23 P3 (out), 24 P2 (out), 25 TEST3, 26 LLC2 (out), 27 LLC1 (out), 28 XTAL1 (out), 29 XTAL, 30 DVDD@1 (power), 31 DGND@3 (power), 32 P1 (out), 33 P0 (out), 34 TEST10, 35 TEST9, 36 PWRDN, 37 ELPF, 38 PVDD (power), 39 AGND (power), 40 FB, 41 AIN7, 42 AIN1, 43 AIN8, 44 AIN2, 45 AIN9, 46 AIN3, 47 AGND@1 (power), 48 CAPY1, 49 CAPY2, 50 AVDD (power), 51 REFOUT (out), 52 CML (out), 53 AGND@2 (power), 54 CAPC1, 55 CAPC2, 56 AGND@3 (power), 57 AIN10, 58 AIN4, 59 AIN11, 60 AIN5, 61 AIN12, 62 AIN6, 63 SOY, 64 RESET, 65 TEST7, 66 ALSB, 67 SDA, 68 SCLK, 69 TEST4, 70 TEST0, 71 DGND@4 (power), 72 DVDD@2 (power), 73 P15 (out), 74 P14 (out), 75 P13 (out), 76 P12 (out), 77 TEST6, 78 TEST1, 79 OE, 80 FIELD (out)

## ADV7194
designator IC?, comment Professional Extended-10 (TM) Video Encoder with 54 MHz Oversampling   Auto generated by make-symbol-device-package-bsdl.ulp Rev. 33 Source: http://www.analog.com/static/imported-files/data_sheets/ADV7194.pdf
MPN: ADV7194KSTZ; OC_FARNELL: 1438743; OC_NEWARK: 39P9724
footprint LQFP80
pins: 1 P0, 2 P1, 3 P2, 4 P3, 5 P4, 6 P5, 7 P6, 8 P7, 9 P8, 10 P9, 11 Y0/P10, 12 Y1/P11, 13 Y2/P12, 14 Y3/P13, 15 Y4/P14, 16 Y5/P15, 17 Y6/P16, 18 Y7/P17, 19 Y8/P18, 20 Y9/P19, 21 VDD (power), 22 DGND (power), 23 HSYNC, 24 VSYNC, 25 BLANK, 26 CB0, 27 CB1, 28 CB2, 29 CB3, 30 CB4, 31 CB5, 32 TTXREQ (out), 33 DGND@1 (power), 34 VDD@1 (power), 35 AGND (power), 36 CLKIN, 37 CLKOUT (out), 38 VAA (power), 39 SCL, 40 SDA, 41 SCRESET/RTC/TR, 42 ALSB, 43 DGND@2 (power), 44 RSET2, 45 COMP2 (out), 46 DAC_F (out), 47 DAC_E (out), 48 VAA@1 (power), 49 AGND@1 (power), 50 DAC_D (out), 51 DAC_C (out), 52 AGND@2 (power), 53 VAA@2 (power), 54 DAC_B (out), 55 DAC_A (out), 56 COMP_1 (out), 57 VREF, 58 RSET1, 59 PAL_NTSC, 60 RESET, 61 CSO_HSO (out), 62 VSO/TTX/CLAMP, 63 CR0, 64 CR1, 65 CR2, 66 CR3, 67 CR4, 68 VDD@2 (power), 69 DGND@3 (power), 70 CR5, 71 CR6, 72 CR7, 73 CR8, 74 CR9, 75 CB6, 76 CB7, 77 CB8, 78 CB9, 79 VDD@3 (power), 80 DGND@4 (power)

## ADXL202E
designator IC?, comment Low-Cost  +-2 g Dual-Axis Accelerometer with Duty Cycle Output   Source: www.analog.com/UploadedFiles/Data_Sheets/53728567227477ADXL202E_a.pdf
MPN: ADXL202JE; MF: ALTERA CORPORATION; OC_FARNELL: 1424583; OC_NEWARK: 23C7726
footprint LCC8
pins: 1 ST, 2 T2, 3 COM, 4 YOUT, 5 XOUT, 6 YFILT, 7 XFILT, 8 VDD

## BUF04P
designator IC?, comment Closed-Loop High Speed Buffer OBSOLETE   Source: http://www.analog.com/static/imported-files/data_sheets_obsolete/820549BUF04.pdf
OC_FARNELL: unknown; OC_NEWARK: unknown
footprint DIL08
pins: 1 OFF@1, 3 IN, 4 -VS, 6 OUT (out), 7 +VS, 8 OFF@2

## BUF04S
designator IC?, comment Closed-Loop High Speed Buffer OBSOLETE   Source: http://www.analog.com/static/imported-files/data_sheets_obsolete/820549BUF04.pdf
OC_FARNELL: unknown; OC_NEWARK: unknown
footprint SO8
pins: 1 OFF@1, 3 IN, 4 -VS, 6 OUT (out), 7 +VS, 8 OFF@2

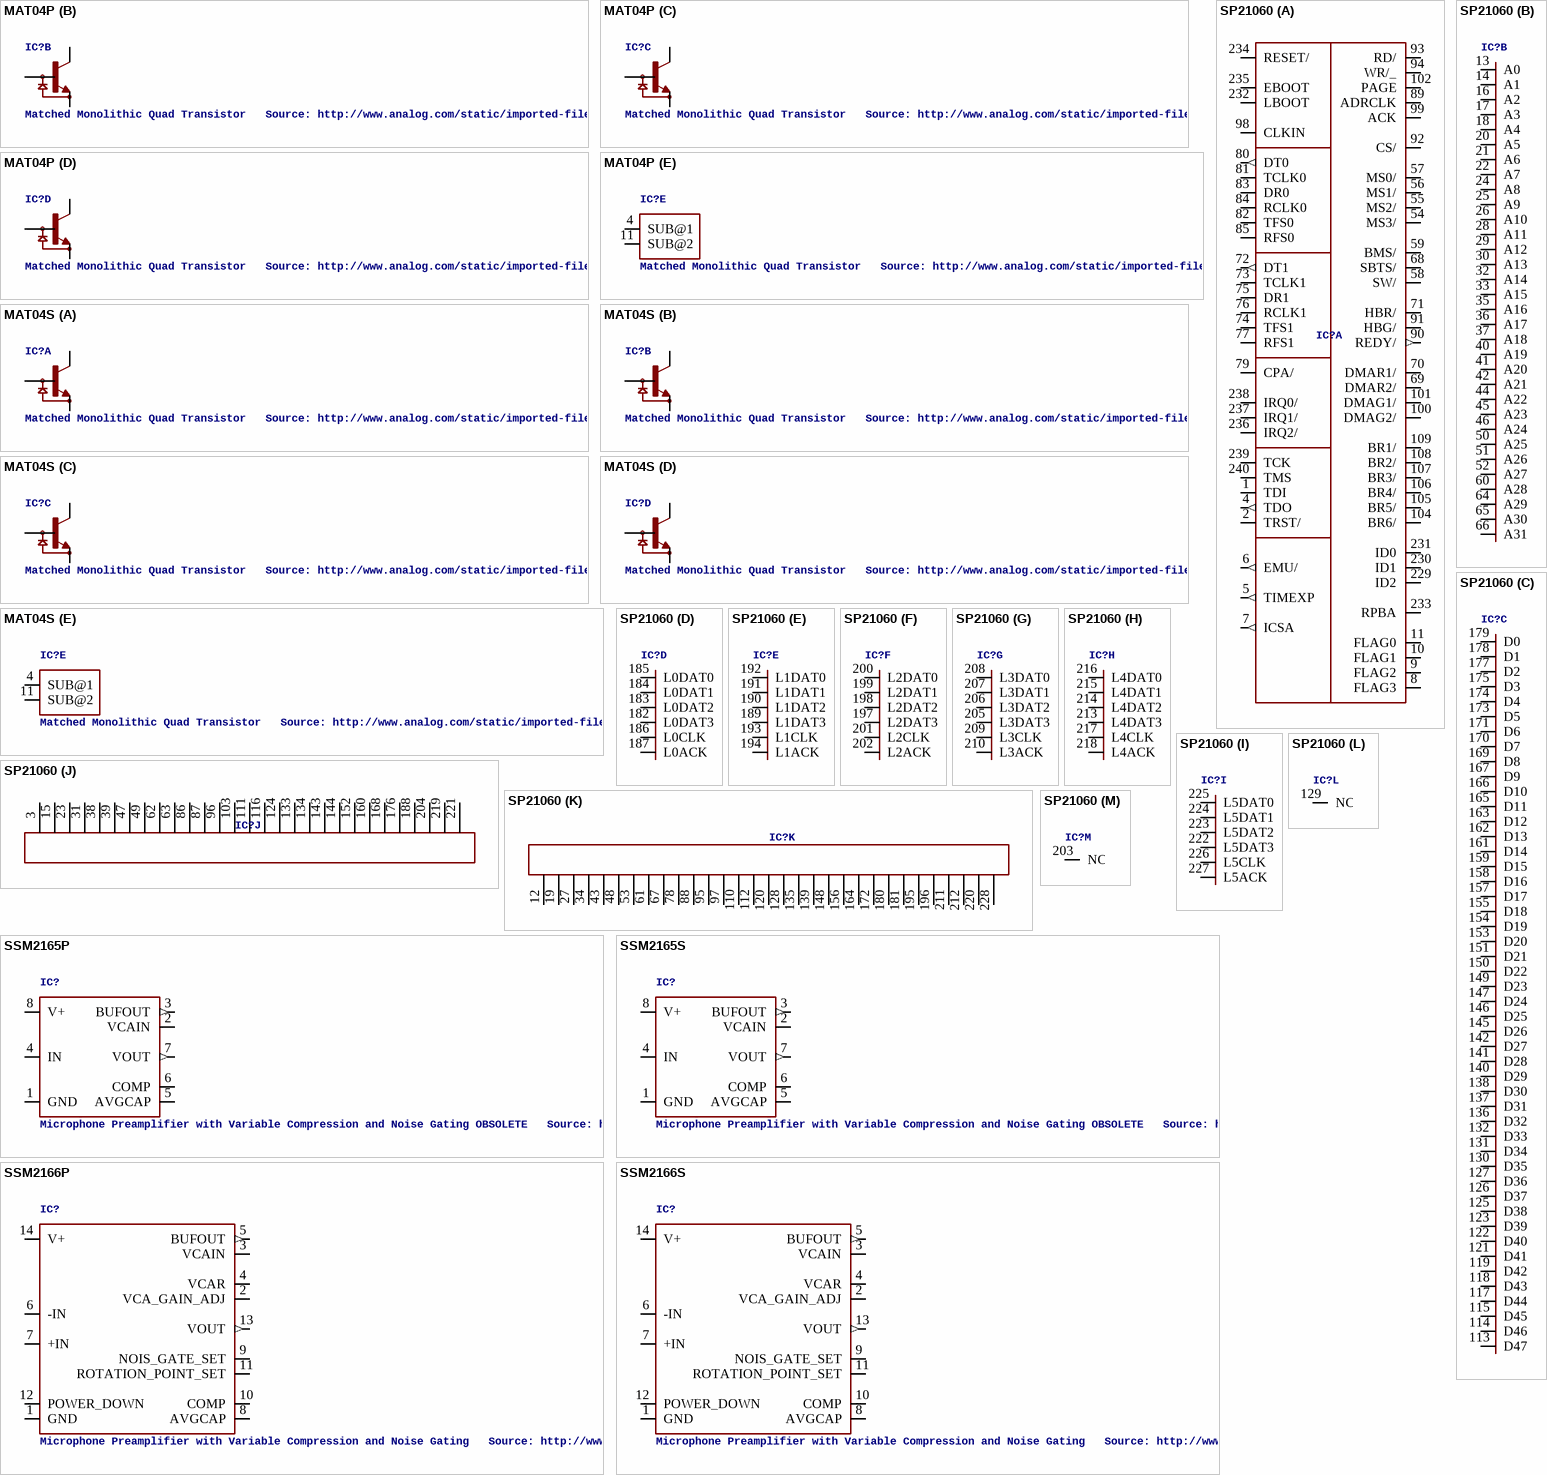
[diagram p38: symbols MAT04P to SSM2166S]

## MAT04P
designator IC?, comment Matched Monolithic Quad Transistor   Source: http://www.analog.com/static/imported-files/data_sheets/MAT04.pdf
OC_FARNELL: 1465698; OC_NEWARK: unknown
footprint DIL14
part A pins: 1 C, 2 B, 3 E
part B pins: 5 E, 6 B, 7 C
part C pins: 8 C, 9 B, 10 E
part D pins: 12 E, 13 B, 14 C
part E pins: 4 SUB@1, 11 SUB@2

## MAT04S
designator IC?, comment Matched Monolithic Quad Transistor   Source: http://www.analog.com/static/imported-files/data_sheets/MAT04.pdf
MPN: MAT04FS; OC_FARNELL: unknown; OC_NEWARK: 66F5730
footprint SO14
part A pins: 1 C, 2 B, 3 E
part B pins: 5 E, 6 B, 7 C
part C pins: 8 C, 9 B, 10 E
part D pins: 12 E, 13 B, 14 C
part E pins: 4 SUB@1, 11 SUB@2

## SP21060
designator IC?, comment ANALOG DEVICES  (value not drawn)
MPN: ADSP-21060KSZ-133; OC_FARNELL: 1438767; OC_NEWARK: 46M5216
footprint PQFP240
part A pins: 1 TDI, 2 TRST/, 4 TDO (out), 5 TIMEXP (out), 6 EMU/ (out), 7 ICSA (out), 8 FLAG3, 9 FLAG2, 10 FLAG1, 11 FLAG0, 54 MS3/ (hiz), 55 MS2/ (hiz), 56 MS1/ (hiz), 57 MS0/ (hiz), 58 SW/ (hiz), 59 BMS/, 68 SBTS/, 69 DMAR2/, 70 DMAR1/, 71 HBR/, 72 DT1 (out), 73 TCLK1, 74 TFS1, 75 DR1, 76 RCLK1, 77 RFS1, 79 CPA/, 80 DT0 (out), 81 TCLK0, 82 TFS0, 83 DR0, 84 RCLK0, 85 RFS0, 89 ADRCLK (hiz), 90 REDY/ (out), 91 HBG/, 92 CS/, 93 RD/ (hiz), 94 WR/_ (hiz), 98 CLKIN, 99 ACK, 100 DMAG2/ (hiz), 101 DMAG1/ (hiz), 102 PAGE (hiz), 104 BR6/, 105 BR5/, 106 BR4/, 107 BR3/, 108 BR2/, 109 BR1/, 229 ID2, 230 ID1, 231 ID0, 232 LBOOT, 233 RPBA, 234 RESET/, 235 EBOOT, 236 IRQ2/, 237 IRQ1/, 238 IRQ0/, 239 TCK, 240 TMS
part B pins: 13 A0, 14 A1, 16 A2, 17 A3, 18 A4, 20 A5, 21 A6, 22 A7, 24 A8, 25 A9, 26 A10, 28 A11, 29 A12, 30 A13, 32 A14, 33 A15, 35 A16, 36 A17, 37 A18, 40 A19, 41 A20, 42 A21, 44 A22, 45 A23, 46 A24, 50 A25, 51 A26, 52 A27, 60 A28, 64 A29, 65 A30, 66 A31
part C pins: 113 D47, 114 D46, 115 D45, 117 D44, 118 D43, 119 D42, 121 D41, 122 D40, 123 D39, 125 D38, 126 D37, 127 D36, 130 D35, 131 D34, 132 D33, 136 D32, 137 D31, 138 D30, 140 D29, 141 D28, 142 D27, 145 D26, 146 D25, 147 D24, 149 D23, 150 D22, 151 D21, 153 D20, 154 D19, 155 D18, 157 D17, 158 D16, 159 D15, 161 D14, 162 D13, 163 D12, 165 D11, 166 D10, 167 D9, 169 D8, 170 D7, 171 D6, 173 D5, 174 D4, 175 D3, 177 D2, 178 D1, 179 D0
part D pins: 182 L0DAT3, 183 L0DAT2, 184 L0DAT1, 185 L0DAT0, 186 L0CLK, 187 L0ACK
part E pins: 189 L1DAT3, 190 L1DAT2, 191 L1DAT1, 192 L1DAT0, 193 L1CLK, 194 L1ACK
part F pins: 197 L2DAT3, 198 L2DAT2, 199 L2DAT1, 200 L2DAT0, 201 L2CLK, 202 L2ACK
part G pins: 205 L3DAT3, 206 L3DAT2, 207 L3DAT1, 208 L3DAT0, 209 L3CLK, 210 L3ACK
part H pins: 213 L4DAT3, 214 L4DAT2, 215 L4DAT1, 216 L4DAT0, 217 L4CLK, 218 L4ACK
part I pins: 222 L5DAT3, 223 L5DAT2, 224 L5DAT1, 225 L5DAT0, 226 L5CLK, 227 L5ACK
part J pins: 3 VCC (power), 15 VCC@1 (power), 23 VCC@2 (power), 31 VCC@3 (power), 38 VCC@4 (power), 39 VCC@5 (power), 47 VCC@6 (power), 49 VCC@7 (power), 62 VCC@8 (power), 63 VCC@9 (power), 86 VCC@10 (power), 87 VCC@11 (power), 96 VCC@12 (power), 103 VCC@13 (power), 111 VCC@14 (power), 116 VCC@15 (power), 124 VCC@16 (power), 133 VCC@17 (power), 134 VCC@18 (power), 143 VCC@19 (power), 144 VCC@20 (power), 152 VCC@21 (power), 160 VCC@22 (power), 168 VCC@23 (power), 176 VCC@24 (power), 188 VCC@25 (power), 204 VCC@26 (power), 219 VCC@27 (power), 221 VCC@28 (power)
part K pins: 12 GND (power), 19 GND@1 (power), 27 GND@2 (power), 34 GND@3 (power), 43 GND@4 (power), 48 GND@5 (power), 53 GND@6 (power), 61 GND@7 (power), 67 GND@8 (power), 78 GND@9 (power), 88 GND@10 (power), 95 GND@11 (power), 97 GND@12 (power), 110 GND@13 (power), 112 GND@14 (power), 120 GND@15 (power), 128 GND@16 (power), 135 GND@17 (power), 139 GND@18 (power), 148 GND@19 (power), 156 GND@20 (power), 164 GND@21 (power), 172 GND@22 (power), 180 GND@23 (power), 181 GND@24 (power), 195 GND@25 (power), 196 GND@26 (power), 211 GND@27 (power), 212 GND@28 (power), 220 GND@29 (power), 228 GND@30 (power)
part L pins: 129 NC
part M pins: 203 NC

## SSM2165P
designator IC?, comment Microphone Preamplifier with Variable Compression and Noise Gating OBSOLETE   Source: http://www.analog.com/static/imported-files/data_sheets_obsolete/564647885SSM2165.pdf
OC_FARNELL: unknown; OC_NEWARK: unknown
footprint DIL08
pins: 1 GND (power), 2 VCAIN, 3 BUFOUT (out), 4 IN, 5 AVGCAP, 6 COMP, 7 VOUT (out), 8 V+ (power)

## SSM2165S
designator IC?, comment Microphone Preamplifier with Variable Compression and Noise Gating OBSOLETE   Source: http://www.analog.com/static/imported-files/data_sheets_obsolete/564647885SSM2165.pdf
OC_FARNELL: unknown; OC_NEWARK: unknown
footprint SO8
pins: 1 GND (power), 2 VCAIN, 3 BUFOUT (out), 4 IN, 5 AVGCAP, 6 COMP, 7 VOUT (out), 8 V+ (power)

## SSM2166P
designator IC?, comment Microphone Preamplifier with Variable Compression and Noise Gating   Source: http://www.analog.com/static/imported-files/data_sheets/SSM2166.pdf
OC_FARNELL: unknown; OC_NEWARK: unknown
footprint DIL14
pins: 1 GND (power), 2 VCA_GAIN_ADJ, 3 VCAIN, 4 VCAR, 5 BUFOUT (out), 6 -IN, 7 +IN, 8 AVGCAP, 9 NOIS_GATE_SET, 10 COMP, 11 ROTATION_POINT_SET, 12 POWER_DOWN, 13 VOUT (out), 14 V+ (power)

## SSM2166S
designator IC?, comment Microphone Preamplifier with Variable Compression and Noise Gating   Source: http://www.analog.com/static/imported-files/data_sheets/SSM2166.pdf
MPN: SSM2166S-REEL; MF: ALTERA CORPORATION; OC_FARNELL: 1424669; OC_NEWARK: 13B4818
footprint SO14
pins: 1 GND (power), 2 VCA_GAIN_ADJ, 3 VCAIN, 4 VCAR, 5 BUFOUT (out), 6 -IN, 7 +IN, 8 AVGCAP, 9 NOIS_GATE_SET, 10 COMP, 11 ROTATION_POINT_SET, 12 POWER_DOWN, 13 VOUT (out), 14 V+ (power)

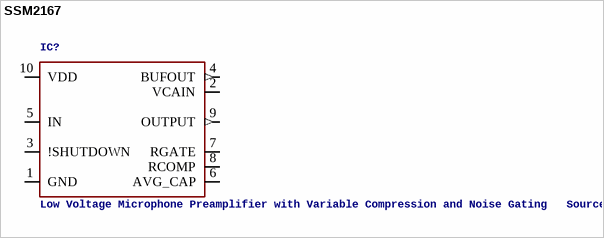
[diagram p39: symbol SSM2167]

## SSM2167
designator IC?, comment Low Voltage Microphone Preamplifier with Variable Compression and Noise Gating   Source: http://www.analog.com .. SSM2167.pdf
MPN: SSM2167Z-EVAL; OC_FARNELL: 1424672; OC_NEWARK: 65M4647
footprint SO10
pins: 1 GND (power), 2 VCAIN, 3 !SHUTDOWN, 4 BUFOUT (out), 5 IN, 6 AVG_CAP, 7 RGATE, 8 RCOMP, 9 OUTPUT (out), 10 VDD (power)